# Altium schematic symbol library BC817-25-TP.SchLib: 2 symbols
Pins are listed as number, name and electrical type; pins without a type are passive.

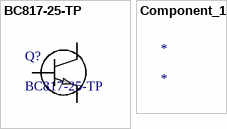
[diagram p0: symbols BC817-25-TP to Component_1]

## BC817-25-TP
designator Q?
No Description Available; Mfr_Name: MCC; Type: DEV; Copyright: Copyright (C) 2022 Ultra Librarian. All rights reserved.; Manufacturer_Part_Number: BC817-25-TP; Digi-Key_Part_Number_1: BC817-25-TPMSTR-ND; Digi-Key_Part_Number_2: BC817-25-TPMSCT-ND; Digi-Key_Part_Number_3: BC817-25-TPMSDKR-ND; RefDes: RefDes
footprint BC817_MCC
pins: 1 B, 2 E, 3 C

## Component_1
designator *